# Altium integrated library IRF640.IntLib: 1 symbol
Pins are listed as number, name and electrical type; pins without a type are passive.

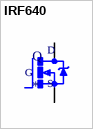
[diagram p0: symbol IRF640]

## IRF640
designator Q
N-Channel 200V 18A _Tc_ 125W _Tc_ Through Hole TO-220AB; MP: IRF640; MF: STMicroelectronics; Value: *; Package: TO-220 Fairchild Semiconductor; Availability: Unavailable; Price: None; SnapEDA_Link: https://www.snapeda.com/parts/IRF640/STMicroelectronics/view-part/802185/?ref=snap
footprint TO220V
pins: 1 G, 2 D, 3 S